# Altium schematic symbol library SamacSys.SchLib: 41 symbols
Pins are listed as number, name and electrical type; pins without a type are passive.

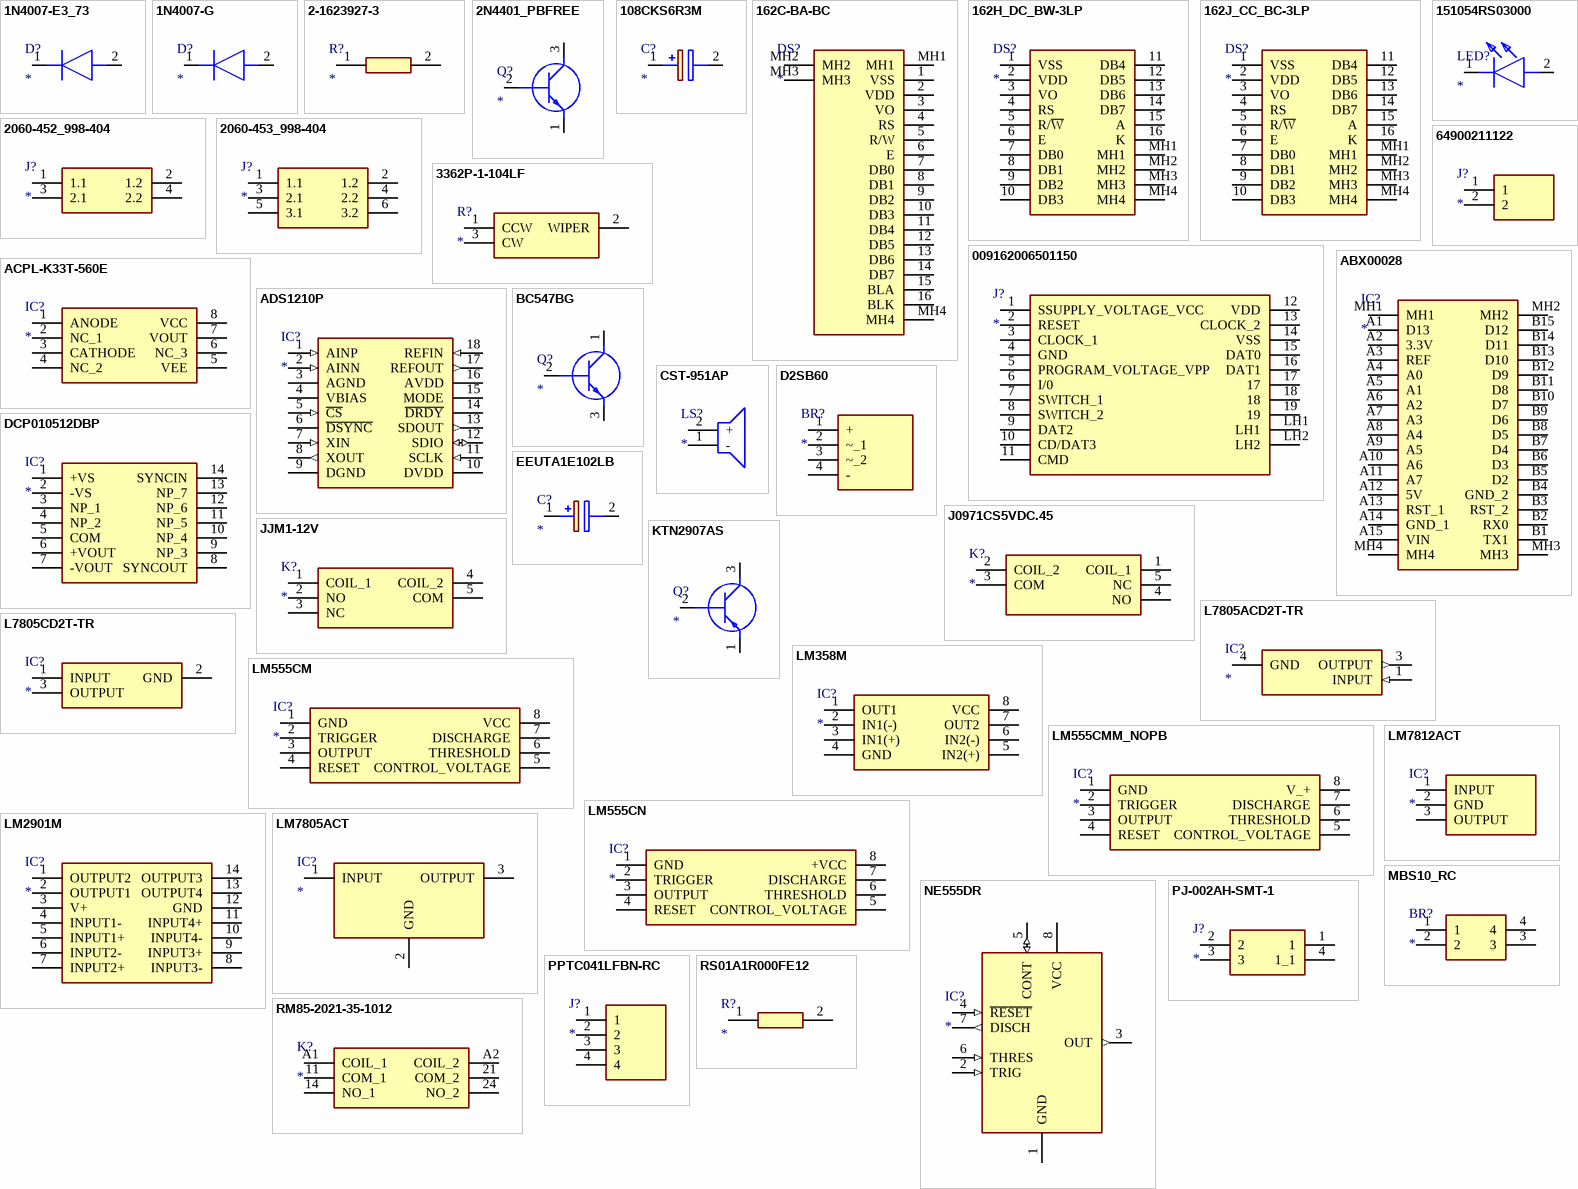
[diagram p0: symbols 1N4007-E3_73 to RS01A1R000FE12]

## 1N4007-E3_73
designator D?
Diode; Manufacturer_Name: Vishay; Manufacturer_Part_Number: 1N4007-E3/73; Datasheet Link: https://mouser.componentsearchengine.com/Datasheets/2/1N4007-E3_73.pdf; Mouser Part Number: 625-1N4007-E3/73; Mouser Price/Stock: https://www.mouser.co.uk/ProductDetail/Vishay-General-Semiconductor/1N4007-E3-73?qs=N4vtoAxH%2FSqT3Ng3e4K0Gw%3D%3D; Arrow Part Number: 1N4007-E3/73; Arrow Price/Stock: https://www.arrow.com/en/products/1n4007-e373/vishay?region=europe
footprint DIOAD1405W86L465D235
pins: 1 K, 2 A

## 1N4007-G
designator D?
Diode; Manufacturer_Name: Comchip Technology; Manufacturer_Part_Number: 1N4007-G; Description: Rectifiers 1A 1000V; Datasheet Link: https://datasheet.datasheetarchive.com/originals/distributors/Datasheets-DGA23/1390217.pdf; Mouser Part Number: 750-1N4007-G; Mouser Price/Stock: https://www.mouser.co.uk/ProductDetail/Comchip-Technology/1N4007-G?qs=2qJf6qQ4IOKzApuByvlhjQ%3D%3D; Arrow Part Number: 1N4007-G; Arrow Price/Stock: https://www.arrow.com/en/products/1n4007-g/comchip-technology?region=nac
footprint DIOAD1410W90L470D235
pins: 1 K, 2 A

## 2-1623927-3
designator R?
Resistor; Manufacturer_Name: TE Connectivity; Manufacturer_Part_Number: 2-1623927-3; Datasheet Link: https://datasheet.datasheetarchive.com/originals/distributors/Datasheets-DGA8/3121844.pdf; Mouser Part Number: 279-2-1623927-3; Mouser Price/Stock: https://www.mouser.co.uk/ProductDetail/TE-Connectivity-Holsworthy/2-1623927-3?qs=zz2qeuxO0qNSv4I5m3DNjg%3D%3D; Arrow Part Number: 2-1623927-3; Arrow Price/Stock: https://www.arrow.com/en/products/2-1623927-3/te-connectivity
footprint RESAD1090W50L350D185
pins: 1, 2

## 2N4401_PBFREE
designator Q?
Transistor BJT NPN; Manufacturer_Name: Central Semiconductor; Manufacturer_Part_Number: 2N4401 PBFREE; Datasheet Link: https://my.centralsemi.com/datasheets/2N4400.PDF; Height: 5.33mm; Mouser Part Number: 610-2N4401; Mouser Price/Stock: https://www.mouser.co.uk/ProductDetail/Central-Semiconductor/2N4401-PBFREE?qs=u16ybLDytRbENLVWEhN70w%3D%3D; Arrow Part Number: 2N4401 PBFREE; Arrow Price/Stock: https://www.arrow.com/en/products/2n4401-pbfree/central-semiconductor?region=nac
footprint 2N4401PBFREE
pins: 1 E, 2 B, 3 C

## 108CKS6R3M
designator C?
Capacitor Polarised; Manufacturer_Name: ILLINOIS CAPACITOR; Manufacturer_Part_Number: 108CKS6R3M; Datasheet Link: http://www.illinoiscapacitor.com/ic_search/lytics_products_detail.aspx?icpartnumber=247; Height: 13mm; Mouser Part Number: 598-108CKS6R3M; Mouser Price/Stock: https://www.mouser.com/Search/Refine.aspx?Keyword=598-108CKS6R3M
footprint CAPPRD350W55D850H1300
pins: 1 +, 2 -

## 162C-BA-BC
designator DS?
Display; Manufacturer_Name: Displaytech; Manufacturer_Part_Number: 162C-BA-BC; Datasheet Link: http://uk.rs-online.com/web/p/products/1775379; Height: 5mm
footprint 162CBABC
pins: 1 VSS, 2 VDD, 3 VO, 4 RS, 5 R/W, 6 E, 7 DB0, 8 DB1, 9 DB2, 10 DB3, 11 DB4, 12 DB5, 13 DB6, 14 DB7, 15 BLA, 16 BLK, MH1, MH2, MH3, MH4

## 162H_DC_BW-3LP
designator DS?
Display; Manufacturer_Name: Displaytech; Manufacturer_Part_Number: 162H DC BW-3LP; Datasheet Link: https://www.mouser.com/datasheet/2/1015/162H-DC-BW-3LP-Displaytech-Spec-1664822.pdf; Height: 13.2mm; Mouser Part Number: 758-162HDCBW3LP; Mouser Price/Stock: https://www.mouser.co.uk/ProductDetail/Displaytech/162H-DC-BW-3LP?qs=PzGy0jfpSMu9Pu07wP3dWg%3D%3D
footprint 162HDCBW3LP
pins: 1 VSS, 2 VDD, 3 VO, 4 RS, 5 R/~{W}, 6 E, 7 DB0, 8 DB1, 9 DB2, 10 DB3, 11 DB4, 12 DB5, 13 DB6, 14 DB7, 15 A, 16 K, MH1, MH2, MH3, MH4

## 162J_CC_BC-3LP
designator DS?
Display; Manufacturer_Name: Displaytech; Manufacturer_Part_Number: 162J CC BC-3LP; Datasheet Link: https://componentsearchengine.com/Datasheets/1/162J CC BC-3LP.pdf; Height: 13.2mm; Mouser Part Number: N/A; Mouser Price/Stock: https://www.mouser.co.uk/ProductDetail/Displaytech/162J-CC-BC-3LP?qs=BJlw7L4Cy7%252B%252BD3FDQyjtsg%3D%3D
footprint 162JCCBC3LP
pins: 1 VSS, 2 VDD, 3 VO, 4 RS, 5 R/~{W}, 6 E, 7 DB0, 8 DB1, 9 DB2, 10 DB3, 11 DB4, 12 DB5, 13 DB6, 14 DB7, 15 A, 16 K, MH1, MH2, MH3, MH4

## 2060-452_998-404
designator J?
Connector; Manufacturer_Name: Wago; Manufacturer_Part_Number: 2060-452/998-404; Datasheet Link: https://www.wago.com/2060-452/998-404; Height: 4.5mm; Arrow Part Number: 2060-452/998-404; Arrow Price/Stock: https://www.arrow.com/en/products/2060-452998-404/wago-kontakttechnik-gmbh?region=nac
footprint 2060452998404
pins: 1 1.1, 2 1.2, 3 2.1, 4 2.2

## 2060-453_998-404
designator J?
Connector; Manufacturer_Name: Wago; Manufacturer_Part_Number: 2060-453/998-404; Datasheet Link: https://www.wago.com/2060-453/998-404; Height: 4.5mm; Arrow Part Number: 2060-453/998-404; Arrow Price/Stock: https://www.arrow.com/en/products/2060-453998-404/wago-kontakttechnik-gmbh?region=europe
footprint 2060453998404
pins: 1 1.1, 2 1.2, 3 2.1, 4 2.2, 5 3.1, 6 3.2

## 3362P-1-104LF
designator R?
Resistor; Manufacturer_Name: Bourns; Manufacturer_Part_Number: 3362P-1-104LF; Datasheet Link: http://www.bourns.com/docs/Product-Datasheets/3362.pdf; Mouser Part Number: 652-3362P-1-104LF; Mouser Price/Stock: https://www.mouser.co.uk/ProductDetail/Bourns/3362P-1-104LF?qs=j68eCxbdS5jNo4NAjRLKMA%3D%3D; Arrow Part Number: 3362P-1-104LF; Arrow Price/Stock: https://www.arrow.com/en/products/3362p-1-104lf/bourns?region=europe
footprint 3362P_1
pins: 1 CCW, 2 WIPER, 3 CW

## 151054RS03000
designator LED?
LED; Manufacturer_Name: Wurth Elektronik; Manufacturer_Part_Number: 151054RS03000; Datasheet Link: https://componentsearchengine.com/Datasheets/1/151054RS03000.pdf; Height: 12.1mm; Mouser Part Number: 710-151054RS03000; Mouser Price/Stock: https://www.mouser.com/Search/Refine.aspx?Keyword=710-151054RS03000
footprint 151054RS03000
pins: 1 K, 2 A

## 64900211122
designator J?
Connector; Manufacturer_Name: Wurth Elektronik; Manufacturer_Part_Number: 64900211122; Datasheet Link: https://katalog.we-online.de/em/datasheet/6490xx11122.pdf; Height: 12.8mm; Mouser Part Number: 710-64900211122; Mouser Price/Stock: https://www.mouser.co.uk/ProductDetail/Wurth-Elektronik/64900211122?qs=2kOmHSv6VfTXoCeJW%2F1Kyw%3D%3D
footprint SHDR2W125P0X420_1X2_960X540X1280P
pins: 1, 2

## 009162006501150
designator J?
Connector; Manufacturer_Name: AVX; Manufacturer_Part_Number: 009162006501150; Datasheet Link: http://datasheets.avx.com/SIMMicroSDCombination.pdf; Height: 2mm; Mouser Part Number: 581-009162006501150; Mouser Price/Stock: https://www.mouser.co.uk/ProductDetail/AVX/009162006501150?qs=3oXjESXZBsAsYp3OCAqEqw%3D%3D; Arrow Part Number: 009162006501150; Arrow Price/Stock: https://www.arrow.com/en/products/009162006501150/avx
footprint 009162006501150
pins: 1 SSUPPLY_VOLTAGE_VCC, 2 RESET, 3 CLOCK_1, 4 GND, 5 PROGRAM_VOLTAGE_VPP, 6 I/0, 7 SWITCH_1, 8 SWITCH_2, 9 DAT2, 10 CD/DAT3, 11 CMD, 12 VDD, 13 CLOCK_2, 14 VSS, 15 DAT0, 16 DAT1, 17, 18, 19, LH1, LH2

## ABX00028
designator IC?
Integrated Circuit; Manufacturer_Name: Arduino; Manufacturer_Part_Number: ABX00028; Datasheet Link: https://store.arduino.cc/arduino-nano-every; Height: 10mm; Mouser Part Number: 782-ABX00028; Mouser Price/Stock: https://www.mouser.co.uk/ProductDetail/Arduino/ABX00028?qs=PzGy0jfpSMtit6rnFl8mVg%3D%3D; Arrow Part Number: ABX00028; Arrow Price/Stock: https://www.arrow.com/en/products/abx00028/arduino-corporation?region=nac
footprint ABX00028
pins: A1 D13, A2 3.3V, A3 REF, A4 A0, A5 A1, A6 A2, A7 A3, A8 A4, A9 A5, A10 A6, A11 A7, A12 5V, A13 RST_1, A14 GND_1, A15 VIN, B1 TX1, B2 RX0, B3 RST_2, B4 GND_2, B5 D2, B6 D3, B7 D4, B8 D5, B9 D6, B10 D7, B11 D8, B12 D9, B13 D10, B14 D11, B15 D12, MH1, MH2, MH3, MH4

## ACPL-K33T-560E
designator IC?
Integrated Circuit; Manufacturer_Name: Avago Technologies; Manufacturer_Part_Number: ACPL-K33T-560E; Datasheet Link: https://docs.broadcom.com/docs/AV02-4575EN; Height: 3.607mm; Mouser Part Number: 630-ACPL-K33T-560E; Mouser Price/Stock: https://www.mouser.co.uk/ProductDetail/Broadcom-Avago/ACPL-K33T-560E?qs=etbJ0UTeUzMuvnVTAqbKJg%3D%3D
footprint SOIC127P1150X361-8N
pins: 1 ANODE, 2 NC_1, 3 CATHODE, 4 NC_2, 5 VEE, 6 NC_3, 7 VOUT, 8 VCC

## ADS1210P
designator IC?
Integrated Circuit; Manufacturer_Name: Texas Instruments; Manufacturer_Part_Number: ADS1210P; Datasheet Link: https://datasheet.datasheetarchive.com/originals/distributors/Datasheets-SFU2/DSASFU100025683.pdf; Height: 5.334mm; Mouser Part Number: 595-ADS1210P; Mouser Price/Stock: https://www.mouser.com/Search/Refine.aspx?Keyword=595-ADS1210P
footprint DIP794W56P254L2286H533Q18N
pins: 1 AINP (in), 2 AINN (in), 3 AGND (power), 4 VBIAS, 5 ~{CS} (in), 6 ~{DSYNC}, 7 XIN (in), 8 XOUT (out), 9 DGND (power), 10 DVDD (power), 11 SCLK (in), 12 SDIO (io), 13 SDOUT (out), 14 ~{DRDY}, 15 MODE, 16 AVDD (power), 17 REFOUT (out), 18 REFIN (in)

## BC547BG
designator Q?
Transistor BJT NPN; Manufacturer_Name: onsemi; Manufacturer_Part_Number: BC547BG; Datasheet Link: https://datasheet.datasheetarchive.com/originals/distributors/Datasheets-23/DSA-455923.pdf; Height: 5.33mm; Mouser Part Number: N/A; Mouser Price/Stock: http://www.mouser.com/Search/ProductDetail.aspx?qs=NSmgnqlvnz5NIKIycfR5CQ%3d%3d; Arrow Part Number: BC547BG; Arrow Price/Stock: http://www.arrow.com/en/products/bc547bg/on-semiconductor
footprint TO-92_(TO-226)
pins: 1 C, 2 B, 3 E

## CST-951AP
designator LS?
Loudspeaker or Buzzer; Manufacturer_Name: CUI Devices; Manufacturer_Part_Number: CST-951AP; Datasheet Link: https://datasheet.datasheetarchive.com/originals/distributors/Datasheets-45/DSA-14132.pdf; Height: 4.5mm; Mouser Part Number: 490-CST-951AP; Mouser Price/Stock: https://www.mouser.co.uk/ProductDetail/CUI-Devices/CST-951AP?qs=WyjlAZoYn50BV9%2FINsWxoA%3D%3D; Arrow Part Number: CST-951AP; Arrow Price/Stock: https://www.arrow.com/en/products/cst-951ap/cui-devices?region=nac
footprint CST951AP
pins: 1 -, 2 +

## D2SB60
designator BR?
Bridge Rectifier; Manufacturer_Name: Taiwan Semiconductor; Manufacturer_Part_Number: D2SB60; Description: Bridge Rectifiers 1.5 Amp 600 Volt 80 Amp IFSM; Datasheet Link: https://www.taiwansemi.com/assets/uploads/datasheet/D2SB05%20SERIES_K2103.pdf; Height: 11.3mm; Mouser Part Number: 821-D2SB60; Mouser Price/Stock: https://www.mouser.com/Search/Refine.aspx?Keyword=821-D2SB60
footprint D2SB60
pins: 1 +, 2 ~_1, 3 ~_2, 4 -

## DCP010512DBP
designator IC?
Integrated Circuit; Manufacturer_Name: Texas Instruments; Manufacturer_Part_Number: DCP010512DBP; Datasheet Link: http://www.ti.com/lit/gpn/dcp010512db; Height: 5.33mm; Mouser Part Number: 595-DCP010512DBP; Mouser Price/Stock: https://www.mouser.co.uk/ProductDetail/Texas-Instruments/DCP010512DBP?qs=vul0MlC%2Fa1eqt%2FmCR7dq5g%3D%3D; Arrow Part Number: DCP010512DBP; Arrow Price/Stock: https://www.arrow.com/en/products/dcp010512dbp/texas-instruments?region=nac
footprint DIP794W56P254L1918H533Q14N
pins: 1 +VS, 2 -VS, 3 NP_1, 4 NP_2, 5 COM, 6 +VOUT, 7 -VOUT, 8 SYNCOUT, 9 NP_3, 10 NP_4, 11 NP_5, 12 NP_6, 13 NP_7, 14 SYNCIN

## EEUTA1E102LB
designator C?
Capacitor Polarised; Manufacturer_Name: Panasonic; Manufacturer_Part_Number: EEUTA1E102LB; Datasheet Link: http://industrial.panasonic.com/cdbs/www-data/pdf/RDF0000/ABA0000C1212.pdf; Height: 27mm
footprint CAPPRD500W65D1250H2700
pins: 1 +, 2 -

## J0971CS5VDC.45
designator K?
Relay or Contactor; Manufacturer_Name: CIT Relay & Switch; Manufacturer_Part_Number: J0971CS5VDC.45; Datasheet Link: https://www.citrelay.com/Catalog Pages/RelayCatalog/J097.pdf; Height: 15.3mm
footprint J0971CS5VDC45
pins: 1 COIL_1, 2 COIL_2, 3 COM, 4 NO, 5 NC

## JJM1-12V
designator K?
Relay or Contactor; Manufacturer_Name: Panasonic; Manufacturer_Part_Number: JJM1-12V; Datasheet Link: https://www.panasonic-electric-works.com/cps/rde/xbcr/pew_eu_en/ds_61210_en_jjm.pdf; Height: 14.2mm; Mouser Part Number: 769-JJM1-12V; Mouser Price/Stock: https://www.mouser.co.uk/ProductDetail/Panasonic-Industrial-Devices/JJM1-12V?qs=UO%2Fx91QLkSB08I34A9%2FECg%3D%3D; Arrow Part Number: JJM1-12V; Arrow Price/Stock: https://www.arrow.com/en/products/jjm1-12v/panasonic?region=nac
footprint JJM112V
pins: 1 COIL_1, 2 NO, 3 NC, 4 COIL_2, 5 COM

## KTN2907AS
designator Q?
Transistor BJT PNP; Manufacturer_Name: KEC; Manufacturer_Part_Number: KTN2907AS; Description: EPITAXIAL PLANAR PNP TRANSISTOR; Datasheet Link: https://4donline.ihs.com/images/VipMasterIC/IC/KECC/KECC-S-A0011628695/KECC-S-A0011628695-1.pdf?hkey=EF798316E3902B6ED9A73243A3159BB0; Height: 1.3mm
footprint SOT95P245X130-3N
pins: 1 E, 2 B, 3 C

## L7805ACD2T-TR
designator IC?
Integrated Circuit; Manufacturer_Name: STMicroelectronics; Manufacturer_Part_Number: L7805ACD2T-TR; Datasheet Link: http://www.st.com/web/en/resource/technical/document/datasheet/CD00000444.pdf; Mouser Part Number: 511-L7805ACD2T-TR; Mouser Price/Stock: https://www.mouser.co.uk/ProductDetail/STMicroelectronics/L7805ACD2T-TR?qs=Ctxo64yJVFuOLXlPPZdJUQ%3D%3D; Arrow Part Number: L7805ACD2T-TR; Arrow Price/Stock: https://www.arrow.com/en/products/l7805acd2t-tr/stmicroelectronics?region=europe
footprint D2PAK-STB35NF10T4
pins: 1 INPUT (in), 3 OUTPUT (out), 4 GND (power)

## L7805CD2T-TR
designator IC?
Integrated Circuit; Manufacturer_Name: STMicroelectronics; Manufacturer_Part_Number: L7805CD2T-TR; Datasheet Link: http://www.st.com/web/en/resource/technical/document/datasheet/CD00000444.pdf; Height: 4.56mm; Mouser Part Number: 511-L7805CD2T-TR; Mouser Price/Stock: https://www.mouser.co.uk/ProductDetail/STMicroelectronics/L7805CD2T-TR?qs=8tkG3v2%2F4sGtQPO74MZjHw%3D%3D; Arrow Part Number: L7805CD2T-TR; Arrow Price/Stock: https://www.arrow.com/en/products/l7805cd2t-tr/stmicroelectronics?region=europe
footprint L7805CD2T
pins: 1 INPUT, 2 GND, 3 OUTPUT

## LM358M
designator IC?
Integrated Circuit; Manufacturer_Name: onsemi; Manufacturer_Part_Number: LM358M; Datasheet Link: https://www.onsemi.com/pub/Collateral/LM358A-D.pdf; Height: 1.75mm; Mouser Part Number: 512-LM358M; Mouser Price/Stock: https://www.mouser.co.uk/ProductDetail/onsemi-Fairchild/LM358M?qs=M37yUtvuNLzx7IpRziQN1g%3D%3D; Arrow Part Number: LM358M; Arrow Price/Stock: https://www.arrow.com/en/products/lm358m/on-semiconductor
footprint SOIC127P600X175-8N
pins: 1 OUT1, 2 IN1(-), 3 IN1(+), 4 GND, 5 IN2(+), 6 IN2(-), 7 OUT2, 8 VCC

## LM555CM
designator IC?
Integrated Circuit; Manufacturer_Name: onsemi; Manufacturer_Part_Number: LM555CM; Datasheet Link: https://datasheet.datasheetarchive.com/originals/distributors/Datasheets_SAMA/3a16823a9a49147dced1d21a4d0c2297.pdf; Height: 1.75mm; Mouser Part Number: 512-LM555CM; Mouser Price/Stock: https://www.mouser.co.uk/ProductDetail/onsemi-Fairchild/LM555CM?qs=4YdYnegEbZVLxPa60axfTg%3D%3D; Arrow Part Number: LM555CM; Arrow Price/Stock: https://www.arrow.com/en/products/lm555cm/on-semiconductor
footprint SOIC127P600X175-8N
pins: 1 GND, 2 TRIGGER, 3 OUTPUT, 4 RESET, 5 CONTROL_VOLTAGE, 6 THRESHOLD, 7 DISCHARGE, 8 VCC

## LM555CMM_NOPB
designator IC?
Integrated Circuit; Manufacturer_Name: Texas Instruments; Manufacturer_Part_Number: LM555CMM/NOPB; Datasheet Link: https://datasheet.datasheetarchive.com/originals/distributors/Datasheets-SFU2/DSASFU100035550.pdf; Height: 1.1mm; Mouser Part Number: 926-LM555CMM/NOPB; Mouser Price/Stock: https://www.mouser.co.uk/ProductDetail/Texas-Instruments/LM555CMM-NOPB?qs=QbsRYf82W3GVhs4trGQccQ%3D%3D; Arrow Part Number: LM555CMM/NOPB; Arrow Price/Stock: https://www.arrow.com/en/products/lm555cmmnopb/texas-instruments?region=nac
footprint SOP65P490X110-8N
pins: 1 GND, 2 TRIGGER, 3 OUTPUT, 4 RESET, 5 CONTROL_VOLTAGE, 6 THRESHOLD, 7 DISCHARGE, 8 V_+

## LM555CN
designator IC?
Integrated Circuit; Manufacturer_Name: Texas Instruments; Manufacturer_Part_Number: LM555CN; Datasheet Link: http://www.ti.com/lit/ds/symlink/lm555.pdf; Height: 5.08mm; Mouser Part Number: 926-LM555CN; Mouser Price/Stock: https://www.mouser.co.uk/ProductDetail/Texas-Instruments/LM555CN?qs=QbsRYf82W3E8xY9MU%252BRY8g%3D%3D
footprint DIP794W53P254L959H508Q8N
pins: 1 GND, 2 TRIGGER, 3 OUTPUT, 4 RESET, 5 CONTROL_VOLTAGE, 6 THRESHOLD, 7 DISCHARGE, 8 +VCC

## LM2901M
designator IC?
Integrated Circuit; Manufacturer_Name: Texas Instruments; Manufacturer_Part_Number: LM2901M; Datasheet Link: http://www.ti.com/lit/ds/symlink/lm2901-n.pdf; Height: 1.75mm; Mouser Part Number: 926-LM2901M; Mouser Price/Stock: https://www.mouser.co.uk/ProductDetail/Texas-Instruments/LM2901M?qs=X1J7HmVL2ZHR281r5jMlrQ%3D%3D; Arrow Part Number: LM2901M; Arrow Price/Stock: https://www.arrow.com/en/products/lm2901m/texas-instruments?region=nac
footprint SOIC127P600X175-14N
pins: 1 OUTPUT2, 2 OUTPUT1, 3 V+, 4 INPUT1-, 5 INPUT1+, 6 INPUT2-, 7 INPUT2+, 8 INPUT3-, 9 INPUT3+, 10 INPUT4-, 11 INPUT4+, 12 GND, 13 OUTPUT4, 14 OUTPUT3

## LM7805ACT
designator IC?
Integrated Circuit; Manufacturer_Name: onsemi; Manufacturer_Part_Number: LM7805ACT; Datasheet Link: https://componentsearchengine.com/Datasheets/2/LM7805ACT.pdf; Height: 4.7mm; Mouser Part Number: 512-LM7805ACT; Mouser Price/Stock: https://www.mouser.co.uk/ProductDetail/ON-Semiconductor-Fairchild/LM7805ACT?qs=VOMQJJE%252BBNlQknJDd4ZVLg%3D%3D; Arrow Part Number: LM7805ACT; Arrow Price/Stock: https://www.arrow.com/en/products/lm7805act/on-semiconductor
footprint TO254P470X1016X2019-3P
pins: 1 INPUT, 2 GND, 3 OUTPUT

## LM7812ACT
designator IC?
Integrated Circuit; Manufacturer_Name: onsemi; Manufacturer_Part_Number: LM7812ACT; Datasheet Link: https://datasheet.datasheetarchive.com/originals/distributors/Datasheets_SAMA/704b005d7d2d9ced5864f40b6609c1bc.pdf; Height: 4.7mm; Mouser Part Number: 512-LM7812ACT; Mouser Price/Stock: https://www.mouser.com/Search/Refine.aspx?Keyword=512-LM7812ACT; Arrow Part Number: LM7812ACT; Arrow Price/Stock: https://www.arrow.com/en/products/lm7812act/on-semiconductor
footprint TO254P470X1016X2019-3P
pins: 1 INPUT, 2 GND, 3 OUTPUT

## MBS10_RC
designator BR?
Bridge Rectifier; Manufacturer_Name: Taiwan Semiconductor; Manufacturer_Part_Number: MBS10 RC; Height: 2.9mm; Mouser Part Number: N/A; Mouser Price/Stock: https://www.mouser.com/Search/Refine.aspx?Keyword=N%2FA; Arrow Part Number: MBS10 RC; Arrow Price/Stock: https://www.arrow.com/en/products/mbs10rc/taiwan-semiconductor?region=nac
footprint SOP240P690X290-4N
pins: 1, 2, 3, 4

## NE555DR
designator IC?
Integrated Circuit; Manufacturer_Name: Texas Instruments; Manufacturer_Part_Number: NE555DR; Datasheet Link: http://www.ti.com/lit/ds/symlink/ne555.pdf; Height: 1.75mm; Mouser Part Number: 595-NE555DR; Mouser Price/Stock: https://www.mouser.com/Search/Refine.aspx?Keyword=595-NE555DR; RS Part Number: 1218414; RS Price/Stock: http://uk.rs-online.com/web/p/products/1218414
footprint SOIC127P600X175-8N
pins: 1 GND (power), 2 TRIG (in), 3 OUT (out), 4 ~{RESET} (in), 5 CONT (io), 6 THRES (in), 7 DISCH (out), 8 VCC (power)

## PJ-002AH-SMT-1
designator J?
Connector; Manufacturer_Name: CUI Devices; Manufacturer_Part_Number: PJ-002AH-SMT-1; Datasheet Link: https://www.cui.com/product/resource/pj-002ah-smt-tr.pdf; Height: 11mm; Mouser Part Number: N/A; Mouser Price/Stock: https://www.mouser.co.uk/ProductDetail/CUI-Inc/PJ-002AH-SMT-1/?qs=WyjlAZoYn53v8l9vpJCO1Q%3D%3D
footprint PJ002AHSMT1
pins: 1, 2, 3, 4 1_1

## PPTC041LFBN-RC
designator J?
Connector; Manufacturer_Name: Sullins; Manufacturer_Part_Number: PPTC041LFBN-RC; Datasheet Link: http://www.sullinscorp.com/drawings/78_P(N)PxCxxxLFBN-RC,_10492-H.pdf; Height: 8.5mm
footprint RHDR4W80P0X254_1X4_1066X254X850P
pins: 1, 2, 3, 4

## RM85-2021-35-1012
designator K?
Relay or Contactor; Manufacturer_Name: Altech; Manufacturer_Part_Number: RM85-2021-35-1012; Datasheet Link: https://www.tme.eu/Document/8b5b549897e7915385caa1ad1ec0023a/RM85_EN.pdf; Height: 15.7mm; Mouser Part Number: 845-RM852021351012; Mouser Price/Stock: https://www.mouser.co.uk/ProductDetail/Altech/RM85-2021-35-1012/?qs=tIuBKjZQlcm1k9b3xPAANQ%3D%3D
footprint RM852021351012
pins: 11 COM_1, 14 NO_1, 21 COM_2, 24 NO_2, A1 COIL_1, A2 COIL_2

## RS01A1R000FE12
designator R?
Resistor; Manufacturer_Name: Vishay; Manufacturer_Part_Number: RS01A1R000FE12; Datasheet Link: http://www.mouser.com/ds/2/427/rsns-226497.pdf; Mouser Part Number: 71-RS01A1R000FE12; Mouser Price/Stock: https://www.mouser.co.uk/ProductDetail/Vishay-Dale/RS01A1R000FE12?qs=pX8%252BLszEE6SqU%2F4VU%252B6gEw%3D%3D; Arrow Part Number: RS01A1R000FE12; Arrow Price/Stock: https://www.arrow.com/en/products/rs01a1r000fe12/vishay?region=nac
footprint RESAD1987W56L1031D239
pins: 1, 2

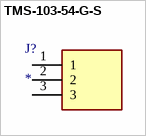
[diagram p1: symbol TMS-103-54-G-S]

## TMS-103-54-G-S
designator J?
Connector; Manufacturer_Name: SAMTEC; Manufacturer_Part_Number: TMS-103-54-G-S; Datasheet Link: http://suddendocs.samtec.com/prints/tms-1xx-xx-xx-x-xx-xxx-mkt.pdf
footprint TMS-103-YY-XX-S
pins: 1, 2, 3